# Altium integrated library TI Power Management Step-Down Regulator.IntLib: 559 symbols (part 33 of 35)
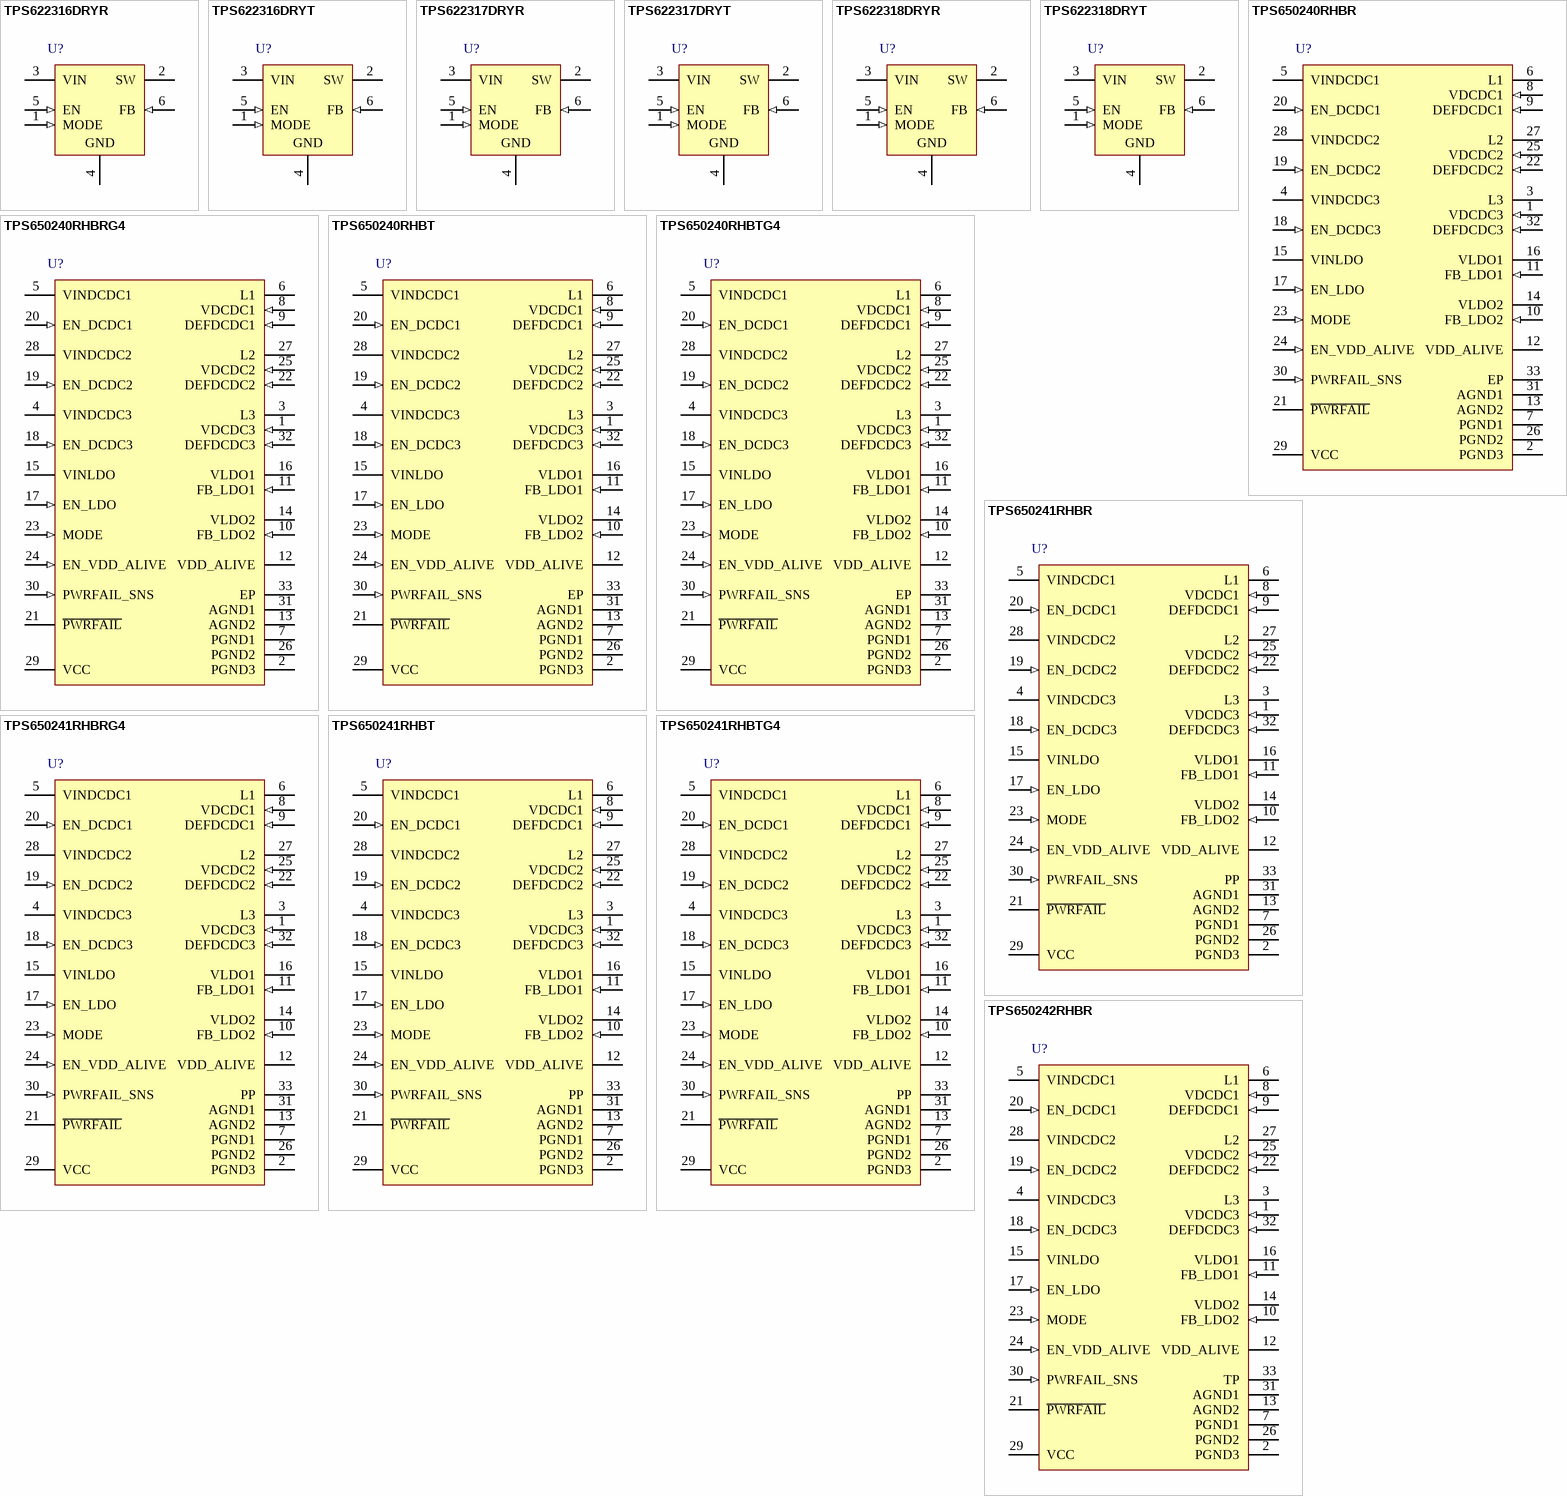
[diagram p51: symbols TPS622316DRYR to TPS650242RHBR]

## TPS650240RHBRG4
designator U?
Multi-Channel Power Management IC with 2.5 to 6 V Input, -40 to 85 degC, 32-Pin QFN (RHB), Green (RoHS & no Sb/Br); Manufacturer: Texas Instruments; PartNumber: TPS650240RHBRG4; Dynamic Voltage Scaling: TRUE; Rating: Catalog; Regulated Outputs(#): 6; SubFamily: PMIC Solutions with and without Battery Charge; Vin(Min)(V): 2.5; DatasheetVersion: SLVS774B; PackageVersion: revD, Jun-2011; PackageReference: RHB32-3450X3450TP; PackageDescription: 32-Pin Plastic Quad Flat No-Lead, 5 x 5 mm Body, 0.5 mm Pitch, 3.45 x 3.45 mm Exposed Pad; Supplier 1: Digi-Key; Supplier Part Number 1: TPS650240RHBRG4-ND; Supplier 2: Newark; Supplier Part Number 2: 52M6143; Supplier 3: Mouser; Supplier Part Number 3: 595-TPS650240RHBRG4; Eco-Plan: Green (RoHS & no Sb/Br); Topology: Multi-Channel; Vin(Max)(V): 6; Mounting Technology: Surface Mount; Code_JEDEC: MO-220; ComponentLink1Description: Datasheet; ComponentLink1URL: http://www.ti.com/general/docs/lit/getliterature.tsp?genericPartNumber=TPS650240&fileType=pdf; ComponentLink2Description: Package Specification; ComponentLink2URL: http://www.ti.com/litv/pdf/mpqf130c; ComponentLink3Description: URL Link1; ComponentLink3URL: Samples URL:http://www.ti.com/product/tps650240#samples
footprint RHB32-3450X3450TP (QFN, 32-Leads, Body 5x5mm, Pitch 0.5mm, Thermal Pad 3.45x3.45mm, TI Recommended)
pins: 1 VDCDC3 (in) "VDCDC3 feedback voltage sense input, connect directly to VDCDC3", 2 PGND3 (power) "Power ground for VDCDC3 converter", 3 L3 (power) "Switch pin of VDCDC3 converter. The VDCDC3 inductor is connected here.", 4 VINDCDC3 (power) "Input voltage for VDCDC3 step-down converter. This must be connected to the same voltage supply as VINDCDC1, VINDCDC2 and VCC.", 5 VINDCDC1 (power) "Input voltage for VDCDC1 step-down converter. This must be connected to the same voltage supply as VINDCDC2, VINDCDC3 and VCC.", 6 L1 (power) "Switch pin of VDCDC1 converter. The VDCDC1 inductor is connected here.", 7 PGND1 (power) "Power ground for VDCDC1 converter", 8 VDCDC1 (in) "VDCDC1 feedback voltage sense input, connect directly to VDCDC1", 9 DEFDCDC1 (in) "Input signal indicating default VDCDC1 voltage, 0 = 2.80V, 1 = 3.3V. This pin can also be connected to a resistor divider between VDCDC1 and GND. In this case the output voltage of the DCDC1 converter can be set in a range (See Datasheet)", 10 FB_LDO2 (in) "Feedback pin for LDO2", 11 FB_LDO1 (in) "Feedback pin for LDO1", 12 VDD_ALIVE (power) "Output voltage for Vdd_alive", 13 AGND2 (power) "Analog ground connection. All analog ground pins are connected internally on the chip.", 14 VLDO2 (power) "Output voltage of LDO2", 15 VINLDO (power) "Input voltage for LDO1 and LDO2", 16 VLDO1 (power) "Output voltage of LDO1", 17 EN_LDO (in) "Enable input for LDO1 and LDO2. Logic high enables the LDOs, logic low disables the LDOs", 18 EN_DCDC3 (in) "VDCDC3 enable pin. A logic high enables the regulator, a logic low disables the regulator.", 19 EN_DCDC2 (in) "VDCDC2 enable pin. A logic high enables the regulator, a logic low disables the regulator.", 20 EN_DCDC1 (in) "VDCDC1 enable pin. A logic high enables the regulator, a logic low disables the regulator.", 21 ~{PWRFAIL} (oc) "Open drain output. Active low when PWRFAIL comparator indicates low VBAT condition.", 22 DEFDCDC2 (in) "Input signal indicating default VDCDC2 voltage, 0=1.8V, 1=2.5V. This pin can also be connected to a resistor divider between VDCDC2 and GND. In this case the output voltage of the DCDC2 converter can be set in a range from 0.(See Datasheet)", 23 MODE (in) "Select between Power Safe Mode and forced PWM Mode for DCDC1, DCDC2 and DCDC3. In Power Safe Mode PFM is used at light loads, PWM for higher loads. If PIN is set to high level, forced PWM Mode is selected. If Pin has low (See Datasheet)", 24 EN_VDD_ALIVE (in) "Enable input for Vdd_alive LDO. Logic high enables the LDO, logic low disables the LDO", 25 VDCDC2 (in) "VDCDC2 feedback voltage sense input, connect directly to VDCDC2", 26 PGND2 (power) "Power ground for VDCDC2 converter", 27 L2 (power) "Switch pin of VDCDC2 converter. The VDCDC2 inductor is connected here.", 28 VINDCDC2 (power) "Input voltage for VDCDC2 step-down converter. This must be connected to the same voltage supply as VINDCDC1, VINDCDC3 and VCC.", 29 VCC (power) "Power supply for digital and analog circuitry of DCDC1, DCDC2 and DCDC3 DC-DC converters. This must be connected to the same voltage supply as VINDCDC3, VINDCDC1 and VINDCDC2.", 30 PWRFAIL_SNS (in) "Input for the comparator driving the /PWRFAIL output", 31 AGND1 (power) "Analog ground connection. All analog ground pins are connected internally on the chip.", 32 DEFDCDC3 (in) "Input signal indicating VDCDC3 voltage. TPS650240: 0 = 1.0V, 1 = 1.3V. TPS650241: 0 = 0.9V, 1 = 1.375V. TPS650242: 0 = 1.0V, 1 = 1.5V. TPS650243: 0 = 1.0V, 1 = 1.2V. TPS650244: 0 = 1.55V, 1 = 1.6V. TPS650245: 0 = 0.9V, 1 = 1.(See Datasheet)", 33 EP (power) "Connect the power pad to analog ground."

## TPS650240RHBT
designator U?
Multi-Channel Power Management IC with 2.5 to 6 V Input, -40 to 85 degC, 32-Pin QFN (RHB), Green (RoHS & no Sb/Br); Manufacturer: Texas Instruments; PartNumber: TPS650240RHBT; Dynamic Voltage Scaling: TRUE; Rating: Catalog; Regulated Outputs(#): 6; SubFamily: PMIC Solutions with and without Battery Charge; Vin(Min)(V): 2.5; DatasheetVersion: SLVS774B; PackageVersion: revD, Jun-2011; PackageReference: RHB32-3450X3450TP; PackageDescription: 32-Pin Plastic Quad Flat No-Lead, 5 x 5 mm Body, 0.5 mm Pitch, 3.45 x 3.45 mm Exposed Pad; Supplier 1: Digi-Key; Supplier Part Number 1: 296-22475-2-ND; Supplier 2: Digi-Key; Supplier Part Number 2: 296-22475-1-ND; Supplier 3: Digi-Key; Supplier Part Number 3: 296-22475-6-ND; Supplier 4: Newark; Supplier Part Number 4: 50M9139; Supplier 5: Mouser; Supplier Part Number 5: 595-TPS650240RHBT; Eco-Plan: Green (RoHS & no Sb/Br); Topology: Multi-Channel; Vin(Max)(V): 6; Mounting Technology: Surface Mount; Code_JEDEC: MO-220; ComponentLink1Description: Datasheet; ComponentLink1URL: http://www.ti.com/general/docs/lit/getliterature.tsp?genericPartNumber=TPS650240&fileType=pdf; ComponentLink2Description: Package Specification; ComponentLink2URL: http://www.ti.com/litv/pdf/mpqf130c; ComponentLink3Description: URL Link1; ComponentLink3URL: Samples URL:http://www.ti.com/product/tps650240#samples
footprint RHB32-3450X3450TP (QFN, 32-Leads, Body 5x5mm, Pitch 0.5mm, Thermal Pad 3.45x3.45mm, TI Recommended)
pins: 1 VDCDC3 (in) "VDCDC3 feedback voltage sense input, connect directly to VDCDC3", 2 PGND3 (power) "Power ground for VDCDC3 converter", 3 L3 (power) "Switch pin of VDCDC3 converter. The VDCDC3 inductor is connected here.", 4 VINDCDC3 (power) "Input voltage for VDCDC3 step-down converter. This must be connected to the same voltage supply as VINDCDC1, VINDCDC2 and VCC.", 5 VINDCDC1 (power) "Input voltage for VDCDC1 step-down converter. This must be connected to the same voltage supply as VINDCDC2, VINDCDC3 and VCC.", 6 L1 (power) "Switch pin of VDCDC1 converter. The VDCDC1 inductor is connected here.", 7 PGND1 (power) "Power ground for VDCDC1 converter", 8 VDCDC1 (in) "VDCDC1 feedback voltage sense input, connect directly to VDCDC1", 9 DEFDCDC1 (in) "Input signal indicating default VDCDC1 voltage, 0 = 2.80V, 1 = 3.3V. This pin can also be connected to a resistor divider between VDCDC1 and GND. In this case the output voltage of the DCDC1 converter can be set in a range (See Datasheet)", 10 FB_LDO2 (in) "Feedback pin for LDO2", 11 FB_LDO1 (in) "Feedback pin for LDO1", 12 VDD_ALIVE (power) "Output voltage for Vdd_alive", 13 AGND2 (power) "Analog ground connection. All analog ground pins are connected internally on the chip.", 14 VLDO2 (power) "Output voltage of LDO2", 15 VINLDO (power) "Input voltage for LDO1 and LDO2", 16 VLDO1 (power) "Output voltage of LDO1", 17 EN_LDO (in) "Enable input for LDO1 and LDO2. Logic high enables the LDOs, logic low disables the LDOs", 18 EN_DCDC3 (in) "VDCDC3 enable pin. A logic high enables the regulator, a logic low disables the regulator.", 19 EN_DCDC2 (in) "VDCDC2 enable pin. A logic high enables the regulator, a logic low disables the regulator.", 20 EN_DCDC1 (in) "VDCDC1 enable pin. A logic high enables the regulator, a logic low disables the regulator.", 21 ~{PWRFAIL} (oc) "Open drain output. Active low when PWRFAIL comparator indicates low VBAT condition.", 22 DEFDCDC2 (in) "Input signal indicating default VDCDC2 voltage, 0=1.8V, 1=2.5V. This pin can also be connected to a resistor divider between VDCDC2 and GND. In this case the output voltage of the DCDC2 converter can be set in a range from 0.(See Datasheet)", 23 MODE (in) "Select between Power Safe Mode and forced PWM Mode for DCDC1, DCDC2 and DCDC3. In Power Safe Mode PFM is used at light loads, PWM for higher loads. If PIN is set to high level, forced PWM Mode is selected. If Pin has low (See Datasheet)", 24 EN_VDD_ALIVE (in) "Enable input for Vdd_alive LDO. Logic high enables the LDO, logic low disables the LDO", 25 VDCDC2 (in) "VDCDC2 feedback voltage sense input, connect directly to VDCDC2", 26 PGND2 (power) "Power ground for VDCDC2 converter", 27 L2 (power) "Switch pin of VDCDC2 converter. The VDCDC2 inductor is connected here.", 28 VINDCDC2 (power) "Input voltage for VDCDC2 step-down converter. This must be connected to the same voltage supply as VINDCDC1, VINDCDC3 and VCC.", 29 VCC (power) "Power supply for digital and analog circuitry of DCDC1, DCDC2 and DCDC3 DC-DC converters. This must be connected to the same voltage supply as VINDCDC3, VINDCDC1 and VINDCDC2.", 30 PWRFAIL_SNS (in) "Input for the comparator driving the /PWRFAIL output", 31 AGND1 (power) "Analog ground connection. All analog ground pins are connected internally on the chip.", 32 DEFDCDC3 (in) "Input signal indicating VDCDC3 voltage. TPS650240: 0 = 1.0V, 1 = 1.3V. TPS650241: 0 = 0.9V, 1 = 1.375V. TPS650242: 0 = 1.0V, 1 = 1.5V. TPS650243: 0 = 1.0V, 1 = 1.2V. TPS650244: 0 = 1.55V, 1 = 1.6V. TPS650245: 0 = 0.9V, 1 = 1.(See Datasheet)", 33 EP (power) "Connect the power pad to analog ground."

## TPS650240RHBTG4
designator U?
Multi-Channel Power Management IC with 2.5 to 6 V Input, -40 to 85 degC, 32-Pin QFN (RHB), Green (RoHS & no Sb/Br); Manufacturer: Texas Instruments; PartNumber: TPS650240RHBTG4; Dynamic Voltage Scaling: TRUE; Rating: Catalog; Regulated Outputs(#): 6; SubFamily: PMIC Solutions with and without Battery Charge; Vin(Min)(V): 2.5; DatasheetVersion: SLVS774B; PackageVersion: revD, Jun-2011; PackageReference: RHB32-3450X3450TP; PackageDescription: 32-Pin Plastic Quad Flat No-Lead, 5 x 5 mm Body, 0.5 mm Pitch, 3.45 x 3.45 mm Exposed Pad; Supplier 1: Digi-Key; Supplier Part Number 1: TPS650240RHBTG4-ND; Supplier 2: Newark; Supplier Part Number 2: 52M6144; Supplier 3: Mouser; Supplier Part Number 3: 595-TPS650240RHBTG4; Eco-Plan: Green (RoHS & no Sb/Br); Topology: Multi-Channel; Vin(Max)(V): 6; Mounting Technology: Surface Mount; Code_JEDEC: MO-220; ComponentLink1Description: Datasheet; ComponentLink1URL: http://www.ti.com/general/docs/lit/getliterature.tsp?genericPartNumber=TPS650240&fileType=pdf; ComponentLink2Description: Package Specification; ComponentLink2URL: http://www.ti.com/litv/pdf/mpqf130c; ComponentLink3Description: URL Link1; ComponentLink3URL: Samples URL:http://www.ti.com/product/tps54611#samples
footprint RHB32-3450X3450TP (QFN, 32-Leads, Body 5x5mm, Pitch 0.5mm, Thermal Pad 3.45x3.45mm, TI Recommended)
pins: 1 VDCDC3 (in) "VDCDC3 feedback voltage sense input, connect directly to VDCDC3", 2 PGND3 (power) "Power ground for VDCDC3 converter", 3 L3 (power) "Switch pin of VDCDC3 converter. The VDCDC3 inductor is connected here.", 4 VINDCDC3 (power) "Input voltage for VDCDC3 step-down converter. This must be connected to the same voltage supply as VINDCDC1, VINDCDC2 and VCC.", 5 VINDCDC1 (power) "Input voltage for VDCDC1 step-down converter. This must be connected to the same voltage supply as VINDCDC2, VINDCDC3 and VCC.", 6 L1 (power) "Switch pin of VDCDC1 converter. The VDCDC1 inductor is connected here.", 7 PGND1 (power) "Power ground for VDCDC1 converter", 8 VDCDC1 (in) "VDCDC1 feedback voltage sense input, connect directly to VDCDC1", 9 DEFDCDC1 (in) "Input signal indicating default VDCDC1 voltage, 0 = 2.80V, 1 = 3.3V. This pin can also be connected to a resistor divider between VDCDC1 and GND. In this case the output voltage of the DCDC1 converter can be set in a range (See Datasheet)", 10 FB_LDO2 (in) "Feedback pin for LDO2", 11 FB_LDO1 (in) "Feedback pin for LDO1", 12 VDD_ALIVE (power) "Output voltage for Vdd_alive", 13 AGND2 (power) "Analog ground connection. All analog ground pins are connected internally on the chip.", 14 VLDO2 (power) "Output voltage of LDO2", 15 VINLDO (power) "Input voltage for LDO1 and LDO2", 16 VLDO1 (power) "Output voltage of LDO1", 17 EN_LDO (in) "Enable input for LDO1 and LDO2. Logic high enables the LDOs, logic low disables the LDOs", 18 EN_DCDC3 (in) "VDCDC3 enable pin. A logic high enables the regulator, a logic low disables the regulator.", 19 EN_DCDC2 (in) "VDCDC2 enable pin. A logic high enables the regulator, a logic low disables the regulator.", 20 EN_DCDC1 (in) "VDCDC1 enable pin. A logic high enables the regulator, a logic low disables the regulator.", 21 ~{PWRFAIL} (oc) "Open drain output. Active low when PWRFAIL comparator indicates low VBAT condition.", 22 DEFDCDC2 (in) "Input signal indicating default VDCDC2 voltage, 0=1.8V, 1=2.5V. This pin can also be connected to a resistor divider between VDCDC2 and GND. In this case the output voltage of the DCDC2 converter can be set in a range from 0.(See Datasheet)", 23 MODE (in) "Select between Power Safe Mode and forced PWM Mode for DCDC1, DCDC2 and DCDC3. In Power Safe Mode PFM is used at light loads, PWM for higher loads. If PIN is set to high level, forced PWM Mode is selected. If Pin has low (See Datasheet)", 24 EN_VDD_ALIVE (in) "Enable input for Vdd_alive LDO. Logic high enables the LDO, logic low disables the LDO", 25 VDCDC2 (in) "VDCDC2 feedback voltage sense input, connect directly to VDCDC2", 26 PGND2 (power) "Power ground for VDCDC2 converter", 27 L2 (power) "Switch pin of VDCDC2 converter. The VDCDC2 inductor is connected here.", 28 VINDCDC2 (power) "Input voltage for VDCDC2 step-down converter. This must be connected to the same voltage supply as VINDCDC1, VINDCDC3 and VCC.", 29 VCC (power) "Power supply for digital and analog circuitry of DCDC1, DCDC2 and DCDC3 DC-DC converters. This must be connected to the same voltage supply as VINDCDC3, VINDCDC1 and VINDCDC2.", 30 PWRFAIL_SNS (in) "Input for the comparator driving the /PWRFAIL output", 31 AGND1 (power) "Analog ground connection. All analog ground pins are connected internally on the chip.", 32 DEFDCDC3 (in) "Input signal indicating VDCDC3 voltage. TPS650240: 0 = 1.0V, 1 = 1.3V. TPS650241: 0 = 0.9V, 1 = 1.375V. TPS650242: 0 = 1.0V, 1 = 1.5V. TPS650243: 0 = 1.0V, 1 = 1.2V. TPS650244: 0 = 1.55V, 1 = 1.6V. TPS650245: 0 = 0.9V, 1 = 1.(See Datasheet)", 33 EP (power) "Connect the power pad to analog ground."

## TPS650241RHBR
designator U?
Multi-Channel Power Management IC with 2.5 to 6 V Input, -40 to 85 degC, 32-Pin QFN (RHB), Green (RoHS & no Sb/Br); Manufacturer: Texas Instruments; PartNumber: TPS650241RHBR; Dynamic Voltage Scaling: TRUE; Rating: Catalog; Regulated Outputs(#): 6; SubFamily: Step-Down Regulator; Vin(Min)(V): 2.5; DatasheetVersion: SLVS774B; PackageVersion: revD, Jun-2011; PackageReference: RHB32-3450X3450TP; PackageDescription: 32-Pin Plastic Quad Flat No-Lead, 5 x 5 mm Body, 0.5 mm Pitch, 3.45 x 3.45 mm Exposed Pad; Supplier 1: Digi-Key; Supplier Part Number 1: TPS650241RHBR-ND; Supplier 2: Newark; Supplier Part Number 2: 50M9140; Supplier 3: Mouser; Supplier Part Number 3: 595-TPS650241RHBR; Eco-Plan: Green (RoHS & no Sb/Br); Topology: Multi-Channel; Vin(Max)(V): 6; Mounting Technology: Surface Mount; Code_JEDEC: MO-220; ComponentLink1Description: Datasheet; ComponentLink1URL: http://www.ti.com/general/docs/lit/getliterature.tsp?genericPartNumber=TPS650241&fileType=pdf; ComponentLink2Description: Package Specification; ComponentLink2URL: http://www.ti.com/litv/pdf/mpqf130c; ComponentLink3Description: URL Link1; ComponentLink3URL: Samples URL:http://www.ti.com/product/tps650241#samples
footprint RHB32-3450X3450TP (QFN, 32-Leads, Body 5x5mm, Pitch 0.5mm, Thermal Pad 3.45x3.45mm, TI Recommended)
pins: 1 VDCDC3 (in) "VDCDC3 feedback voltage sense input, connect directly to VDCDC3", 2 PGND3 (power) "Power ground for VDCDC3 converter", 3 L3 (power) "Switch pin of VDCDC3 converter. The VDCDC3 inductor is connected here.", 4 VINDCDC3 (power) "Input voltage for VDCDC3 step-down converter. This must be connected to the same voltage supply as VINDCDC1, VINDCDC2 and VCC.", 5 VINDCDC1 (power) "Input voltage for VDCDC1 step-down converter. This must be connected to the same voltage supply as VINDCDC2, VINDCDC3 and VCC.", 6 L1 (power) "Switch pin of VDCDC1 converter. The VDCDC1 inductor is connected here.", 7 PGND1 (power) "Power ground for VDCDC1 converter", 8 VDCDC1 (in) "VDCDC1 feedback voltage sense input, connect directly to VDCDC1", 9 DEFDCDC1 (in) "Input signal indicating default VDCDC1 voltage, 0 = 2.80V, 1 = 3.3V This pin can also be connected to a resistor divider between VDCDC1 and GND. In this case the output voltage of the DCDC1 converter can be set in a range (See Datasheet)", 10 FB_LDO2 (in) "Feedback pin for LDO2", 11 FB_LDO1 (in) "Feedback pin for LDO1", 12 VDD_ALIVE (power) "Output voltage for Vdd_alive", 13 AGND2 (power) "Analog ground connection. All analog ground pins are connected internally on the chip.", 14 VLDO2 (power) "Output voltage of LDO2", 15 VINLDO (power) "Input voltage for LDO1 and LDO2", 16 VLDO1 (power) "Output voltage of LDO1", 17 EN_LDO (in) "Enable input for LDO1 and LDO2. Logic high enables the LDOs, logic low disables the LDOs", 18 EN_DCDC3 (in) "VDCDC3 enable pin. A logic high enables the regulator, a logic low disables the regulator.", 19 EN_DCDC2 (in) "VDCDC2 enable pin. A logic high enables the regulator, a logic low disables the regulator.", 20 EN_DCDC1 (in) "VDCDC1 enable pin. A logic high enables the regulator, a logic low disables the regulator.", 21 ~{PWRFAIL} (oc) "Open drain output. Active low when PWRFAIL comparator indicates low VBAT condition.", 22 DEFDCDC2 (in) "Input signal indicating default VDCDC2 voltage, 0=1.8V, 1=2.5V This pin can also be connected to a resistor divider between VDCDC2 and GND. In this case the output voltage of the DCDC2 converter can be set in a range from 0.(See Datasheet)", 23 MODE (in) "Select between Power Safe Mode and forced PWM Mode for DCDC1, DCDC2 and DCDC3. In Power Safe Mode PFM is used at light loads, PWM for higher loads. If PIN is set to high level, forced PWM Mode is selected. If Pin has low (See Datasheet)", 24 EN_VDD_ALIVE (in) "Enable input for Vdd_alive LDO. Logic high enables the LDO, logic low disables the LDO", 25 VDCDC2 (in) "VDCDC2 feedback voltage sense input, connect directly to VDCDC2", 26 PGND2 (power) "Power ground for VDCDC2 converter", 27 L2 (power) "Switch pin of VDCDC2 converter. The VDCDC2 inductor is connected here.", 28 VINDCDC2 (power) "Input voltage for VDCDC2 step-down converter. This must be connected to the same voltage supply as VINDCDC1, VINDCDC3 and VCC.", 29 VCC (power) "Power supply for digital and analog circuitry of DCDC1, DCDC2 and DCDC3 DC-DC converters. This must be connected to the same voltage supply as VINDCDC3, VINDCDC1 and VINDCDC2.", 30 PWRFAIL_SNS (in) "Input for the comparator driving the /PWRFAIL output", 31 AGND1 (power) "Analog ground connection. All analog ground pins are connected internally on the chip.", 32 DEFDCDC3 (in) "Input signal indicating VDCDC3 voltage. TPS650240: 0 = 1.0V, 1 = 1.3V TPS650241: 0 = 0.9V, 1 = 1.375V TPS650242: 0 = 1.0V, 1 = 1.5V TPS650243: 0 = 1.0V, 1 = 1.2V TPS650244: 0 = 1.55V, 1 = 1.6V TPS650245: 0 = 0.9V, 1 = 1.1V", 33 PP (power) "Connect the power pad to analog ground."

## TPS650241RHBRG4
designator U?
Multi-Channel Power Management IC with 2.5 to 6 V Input, -40 to 85 degC, 32-Pin QFN (RHB), Green (RoHS & no Sb/Br); Manufacturer: Texas Instruments; PartNumber: TPS650241RHBRG4; Dynamic Voltage Scaling: TRUE; Rating: Catalog; Regulated Outputs(#): 6; SubFamily: Step-Down Regulator; Vin(Min)(V): 2.5; DatasheetVersion: SLVS774B; PackageVersion: revD, Jun-2011; PackageReference: RHB32-3450X3450TP; PackageDescription: 32-Pin Plastic Quad Flat No-Lead, 5 x 5 mm Body, 0.5 mm Pitch, 3.45 x 3.45 mm Exposed Pad; Supplier 1: Digi-Key; Supplier Part Number 1: TPS650241RHBRG4-ND; Supplier 2: Newark; Supplier Part Number 2: 52M6145; Supplier 3: Mouser; Supplier Part Number 3: 595-TPS650241RHBRG4; Eco-Plan: Green (RoHS & no Sb/Br); Topology: Multi-Channel; Vin(Max)(V): 6; Mounting Technology: Surface Mount; Code_JEDEC: MO-220; ComponentLink1Description: Datasheet; ComponentLink1URL: http://www.ti.com/general/docs/lit/getliterature.tsp?genericPartNumber=TPS650241&fileType=pdf; ComponentLink2Description: Package Specification; ComponentLink2URL: http://www.ti.com/litv/pdf/mpqf130c; ComponentLink3Description: URL Link1; ComponentLink3URL: Samples URL:http://www.ti.com/product/tps650241#samples
footprint RHB32-3450X3450TP (QFN, 32-Leads, Body 5x5mm, Pitch 0.5mm, Thermal Pad 3.45x3.45mm, TI Recommended)
pins: 1 VDCDC3 (in) "VDCDC3 feedback voltage sense input, connect directly to VDCDC3", 2 PGND3 (power) "Power ground for VDCDC3 converter", 3 L3 (power) "Switch pin of VDCDC3 converter. The VDCDC3 inductor is connected here.", 4 VINDCDC3 (power) "Input voltage for VDCDC3 step-down converter. This must be connected to the same voltage supply as VINDCDC1, VINDCDC2 and VCC.", 5 VINDCDC1 (power) "Input voltage for VDCDC1 step-down converter. This must be connected to the same voltage supply as VINDCDC2, VINDCDC3 and VCC.", 6 L1 (power) "Switch pin of VDCDC1 converter. The VDCDC1 inductor is connected here.", 7 PGND1 (power) "Power ground for VDCDC1 converter", 8 VDCDC1 (in) "VDCDC1 feedback voltage sense input, connect directly to VDCDC1", 9 DEFDCDC1 (in) "Input signal indicating default VDCDC1 voltage, 0 = 2.80V, 1 = 3.3V This pin can also be connected to a resistor divider between VDCDC1 and GND. In this case the output voltage of the DCDC1 converter can be set in a range (See Datasheet)", 10 FB_LDO2 (in) "Feedback pin for LDO2", 11 FB_LDO1 (in) "Feedback pin for LDO1", 12 VDD_ALIVE (power) "Output voltage for Vdd_alive", 13 AGND2 (power) "Analog ground connection. All analog ground pins are connected internally on the chip.", 14 VLDO2 (power) "Output voltage of LDO2", 15 VINLDO (power) "Input voltage for LDO1 and LDO2", 16 VLDO1 (power) "Output voltage of LDO1", 17 EN_LDO (in) "Enable input for LDO1 and LDO2. Logic high enables the LDOs, logic low disables the LDOs", 18 EN_DCDC3 (in) "VDCDC3 enable pin. A logic high enables the regulator, a logic low disables the regulator.", 19 EN_DCDC2 (in) "VDCDC2 enable pin. A logic high enables the regulator, a logic low disables the regulator.", 20 EN_DCDC1 (in) "VDCDC1 enable pin. A logic high enables the regulator, a logic low disables the regulator.", 21 ~{PWRFAIL} (oc) "Open drain output. Active low when PWRFAIL comparator indicates low VBAT condition.", 22 DEFDCDC2 (in) "Input signal indicating default VDCDC2 voltage, 0=1.8V, 1=2.5V This pin can also be connected to a resistor divider between VDCDC2 and GND. In this case the output voltage of the DCDC2 converter can be set in a range from 0.(See Datasheet)", 23 MODE (in) "Select between Power Safe Mode and forced PWM Mode for DCDC1, DCDC2 and DCDC3. In Power Safe Mode PFM is used at light loads, PWM for higher loads. If PIN is set to high level, forced PWM Mode is selected. If Pin has low (See Datasheet)", 24 EN_VDD_ALIVE (in) "Enable input for Vdd_alive LDO. Logic high enables the LDO, logic low disables the LDO", 25 VDCDC2 (in) "VDCDC2 feedback voltage sense input, connect directly to VDCDC2", 26 PGND2 (power) "Power ground for VDCDC2 converter", 27 L2 (power) "Switch pin of VDCDC2 converter. The VDCDC2 inductor is connected here.", 28 VINDCDC2 (power) "Input voltage for VDCDC2 step-down converter. This must be connected to the same voltage supply as VINDCDC1, VINDCDC3 and VCC.", 29 VCC (power) "Power supply for digital and analog circuitry of DCDC1, DCDC2 and DCDC3 DC-DC converters. This must be connected to the same voltage supply as VINDCDC3, VINDCDC1 and VINDCDC2.", 30 PWRFAIL_SNS (in) "Input for the comparator driving the /PWRFAIL output", 31 AGND1 (power) "Analog ground connection. All analog ground pins are connected internally on the chip.", 32 DEFDCDC3 (in) "Input signal indicating VDCDC3 voltage. TPS650240: 0 = 1.0V, 1 = 1.3V TPS650241: 0 = 0.9V, 1 = 1.375V TPS650242: 0 = 1.0V, 1 = 1.5V TPS650243: 0 = 1.0V, 1 = 1.2V TPS650244: 0 = 1.55V, 1 = 1.6V TPS650245: 0 = 0.9V, 1 = 1.1V", 33 PP (power) "Connect the power pad to analog ground."

## TPS650241RHBT
designator U?
Multi-Channel Power Management IC with 2.5 to 6 V Input, -40 to 85 degC, 32-Pin QFN (RHB), Green (RoHS & no Sb/Br); Manufacturer: Texas Instruments; PartNumber: TPS650241RHBT; Dynamic Voltage Scaling: TRUE; Rating: Catalog; Regulated Outputs(#): 6; SubFamily: Step-Down Regulator; Vin(Min)(V): 2.5; DatasheetVersion: SLVS774B; PackageVersion: revD, Jun-2011; PackageReference: RHB32-3450X3450TP; PackageDescription: 32-Pin Plastic Quad Flat No-Lead, 5 x 5 mm Body, 0.5 mm Pitch, 3.45 x 3.45 mm Exposed Pad; Supplier 1: Digi-Key; Supplier Part Number 1: 296-22476-2-ND; Supplier 2: Digi-Key; Supplier Part Number 2: 296-22476-1-ND; Supplier 3: Digi-Key; Supplier Part Number 3: 296-22476-6-ND; Supplier 4: Farnell; Supplier Part Number 4: 1565869; Supplier 5: Newark; Supplier Part Number 5: 50M9141; Supplier 6: Mouser; Supplier Part Number 6: 595-TPS650241RHBT; Eco-Plan: Green (RoHS & no Sb/Br); Topology: Multi-Channel; Vin(Max)(V): 6; Mounting Technology: Surface Mount; Code_JEDEC: MO-220; ComponentLink1Description: Datasheet; ComponentLink1URL: http://www.ti.com/general/docs/lit/getliterature.tsp?genericPartNumber=TPS650241&fileType=pdf; ComponentLink2Description: Package Specification; ComponentLink2URL: http://www.ti.com/litv/pdf/mpqf130c; ComponentLink3Description: URL Link1; ComponentLink3URL: Samples URL:http://www.ti.com/product/tps650241#samples
footprint RHB32-3450X3450TP (QFN, 32-Leads, Body 5x5mm, Pitch 0.5mm, Thermal Pad 3.45x3.45mm, TI Recommended)
pins: 1 VDCDC3 (in) "VDCDC3 feedback voltage sense input, connect directly to VDCDC3", 2 PGND3 (power) "Power ground for VDCDC3 converter", 3 L3 (power) "Switch pin of VDCDC3 converter. The VDCDC3 inductor is connected here.", 4 VINDCDC3 (power) "Input voltage for VDCDC3 step-down converter. This must be connected to the same voltage supply as VINDCDC1, VINDCDC2 and VCC.", 5 VINDCDC1 (power) "Input voltage for VDCDC1 step-down converter. This must be connected to the same voltage supply as VINDCDC2, VINDCDC3 and VCC.", 6 L1 (power) "Switch pin of VDCDC1 converter. The VDCDC1 inductor is connected here.", 7 PGND1 (power) "Power ground for VDCDC1 converter", 8 VDCDC1 (in) "VDCDC1 feedback voltage sense input, connect directly to VDCDC1", 9 DEFDCDC1 (in) "Input signal indicating default VDCDC1 voltage, 0 = 2.80V, 1 = 3.3V This pin can also be connected to a resistor divider between VDCDC1 and GND. In this case the output voltage of the DCDC1 converter can be set in a range (See Datasheet)", 10 FB_LDO2 (in) "Feedback pin for LDO2", 11 FB_LDO1 (in) "Feedback pin for LDO1", 12 VDD_ALIVE (power) "Output voltage for Vdd_alive", 13 AGND2 (power) "Analog ground connection. All analog ground pins are connected internally on the chip.", 14 VLDO2 (power) "Output voltage of LDO2", 15 VINLDO (power) "Input voltage for LDO1 and LDO2", 16 VLDO1 (power) "Output voltage of LDO1", 17 EN_LDO (in) "Enable input for LDO1 and LDO2. Logic high enables the LDOs, logic low disables the LDOs", 18 EN_DCDC3 (in) "VDCDC3 enable pin. A logic high enables the regulator, a logic low disables the regulator.", 19 EN_DCDC2 (in) "VDCDC2 enable pin. A logic high enables the regulator, a logic low disables the regulator.", 20 EN_DCDC1 (in) "VDCDC1 enable pin. A logic high enables the regulator, a logic low disables the regulator.", 21 ~{PWRFAIL} (oc) "Open drain output. Active low when PWRFAIL comparator indicates low VBAT condition.", 22 DEFDCDC2 (in) "Input signal indicating default VDCDC2 voltage, 0=1.8V, 1=2.5V This pin can also be connected to a resistor divider between VDCDC2 and GND. In this case the output voltage of the DCDC2 converter can be set in a range from 0.(See Datasheet)", 23 MODE (in) "Select between Power Safe Mode and forced PWM Mode for DCDC1, DCDC2 and DCDC3. In Power Safe Mode PFM is used at light loads, PWM for higher loads. If PIN is set to high level, forced PWM Mode is selected. If Pin has low (See Datasheet)", 24 EN_VDD_ALIVE (in) "Enable input for Vdd_alive LDO. Logic high enables the LDO, logic low disables the LDO", 25 VDCDC2 (in) "VDCDC2 feedback voltage sense input, connect directly to VDCDC2", 26 PGND2 (power) "Power ground for VDCDC2 converter", 27 L2 (power) "Switch pin of VDCDC2 converter. The VDCDC2 inductor is connected here.", 28 VINDCDC2 (power) "Input voltage for VDCDC2 step-down converter. This must be connected to the same voltage supply as VINDCDC1, VINDCDC3 and VCC.", 29 VCC (power) "Power supply for digital and analog circuitry of DCDC1, DCDC2 and DCDC3 DC-DC converters. This must be connected to the same voltage supply as VINDCDC3, VINDCDC1 and VINDCDC2.", 30 PWRFAIL_SNS (in) "Input for the comparator driving the /PWRFAIL output", 31 AGND1 (power) "Analog ground connection. All analog ground pins are connected internally on the chip.", 32 DEFDCDC3 (in) "Input signal indicating VDCDC3 voltage. TPS650240: 0 = 1.0V, 1 = 1.3V TPS650241: 0 = 0.9V, 1 = 1.375V TPS650242: 0 = 1.0V, 1 = 1.5V TPS650243: 0 = 1.0V, 1 = 1.2V TPS650244: 0 = 1.55V, 1 = 1.6V TPS650245: 0 = 0.9V, 1 = 1.1V", 33 PP (power) "Connect the power pad to analog ground."

## TPS650241RHBTG4
designator U?
Multi-Channel Power Management IC with 2.5 to 6 V Input, -40 to 85 degC, 32-Pin QFN (RHB), Green (RoHS & no Sb/Br); Manufacturer: Texas Instruments; PartNumber: TPS650241RHBTG4; Dynamic Voltage Scaling: TRUE; Rating: Catalog; Regulated Outputs(#): 6; SubFamily: Step-Down Regulator; Vin(Min)(V): 2.5; DatasheetVersion: SLVS774B; PackageVersion: revD, Jun-2011; PackageReference: RHB32-3450X3450TP; PackageDescription: 32-Pin Plastic Quad Flat No-Lead, 5 x 5 mm Body, 0.5 mm Pitch, 3.45 x 3.45 mm Exposed Pad; Supplier 1: Digi-Key; Supplier Part Number 1: TPS650241RHBTG4-ND; Supplier 2: Newark; Supplier Part Number 2: 52M6146; Supplier 3: Mouser; Supplier Part Number 3: 595-TPS650241RHBTG4; Eco-Plan: Green (RoHS & no Sb/Br); Topology: Multi-Channel; Vin(Max)(V): 6; Mounting Technology: Surface Mount; Code_JEDEC: MO-220; ComponentLink1Description: Datasheet; ComponentLink1URL: http://www.ti.com/general/docs/lit/getliterature.tsp?genericPartNumber=TPS650241&fileType=pdf; ComponentLink2Description: Package Specification; ComponentLink2URL: http://www.ti.com/litv/pdf/mpqf130c; ComponentLink3Description: URL Link1; ComponentLink3URL: Samples URL:http://www.ti.com/product/tps54611#samples
footprint RHB32-3450X3450TP (QFN, 32-Leads, Body 5x5mm, Pitch 0.5mm, Thermal Pad 3.45x3.45mm, TI Recommended)
pins: 1 VDCDC3 (in) "VDCDC3 feedback voltage sense input, connect directly to VDCDC3", 2 PGND3 (power) "Power ground for VDCDC3 converter", 3 L3 (power) "Switch pin of VDCDC3 converter. The VDCDC3 inductor is connected here.", 4 VINDCDC3 (power) "Input voltage for VDCDC3 step-down converter. This must be connected to the same voltage supply as VINDCDC1, VINDCDC2 and VCC.", 5 VINDCDC1 (power) "Input voltage for VDCDC1 step-down converter. This must be connected to the same voltage supply as VINDCDC2, VINDCDC3 and VCC.", 6 L1 (power) "Switch pin of VDCDC1 converter. The VDCDC1 inductor is connected here.", 7 PGND1 (power) "Power ground for VDCDC1 converter", 8 VDCDC1 (in) "VDCDC1 feedback voltage sense input, connect directly to VDCDC1", 9 DEFDCDC1 (in) "Input signal indicating default VDCDC1 voltage, 0 = 2.80V, 1 = 3.3V This pin can also be connected to a resistor divider between VDCDC1 and GND. In this case the output voltage of the DCDC1 converter can be set in a range (See Datasheet)", 10 FB_LDO2 (in) "Feedback pin for LDO2", 11 FB_LDO1 (in) "Feedback pin for LDO1", 12 VDD_ALIVE (power) "Output voltage for Vdd_alive", 13 AGND2 (power) "Analog ground connection. All analog ground pins are connected internally on the chip.", 14 VLDO2 (power) "Output voltage of LDO2", 15 VINLDO (power) "Input voltage for LDO1 and LDO2", 16 VLDO1 (power) "Output voltage of LDO1", 17 EN_LDO (in) "Enable input for LDO1 and LDO2. Logic high enables the LDOs, logic low disables the LDOs", 18 EN_DCDC3 (in) "VDCDC3 enable pin. A logic high enables the regulator, a logic low disables the regulator.", 19 EN_DCDC2 (in) "VDCDC2 enable pin. A logic high enables the regulator, a logic low disables the regulator.", 20 EN_DCDC1 (in) "VDCDC1 enable pin. A logic high enables the regulator, a logic low disables the regulator.", 21 ~{PWRFAIL} (oc) "Open drain output. Active low when PWRFAIL comparator indicates low VBAT condition.", 22 DEFDCDC2 (in) "Input signal indicating default VDCDC2 voltage, 0=1.8V, 1=2.5V This pin can also be connected to a resistor divider between VDCDC2 and GND. In this case the output voltage of the DCDC2 converter can be set in a range from 0.(See Datasheet)", 23 MODE (in) "Select between Power Safe Mode and forced PWM Mode for DCDC1, DCDC2 and DCDC3. In Power Safe Mode PFM is used at light loads, PWM for higher loads. If PIN is set to high level, forced PWM Mode is selected. If Pin has low (See Datasheet)", 24 EN_VDD_ALIVE (in) "Enable input for Vdd_alive LDO. Logic high enables the LDO, logic low disables the LDO", 25 VDCDC2 (in) "VDCDC2 feedback voltage sense input, connect directly to VDCDC2", 26 PGND2 (power) "Power ground for VDCDC2 converter", 27 L2 (power) "Switch pin of VDCDC2 converter. The VDCDC2 inductor is connected here.", 28 VINDCDC2 (power) "Input voltage for VDCDC2 step-down converter. This must be connected to the same voltage supply as VINDCDC1, VINDCDC3 and VCC.", 29 VCC (power) "Power supply for digital and analog circuitry of DCDC1, DCDC2 and DCDC3 DC-DC converters. This must be connected to the same voltage supply as VINDCDC3, VINDCDC1 and VINDCDC2.", 30 PWRFAIL_SNS (in) "Input for the comparator driving the /PWRFAIL output", 31 AGND1 (power) "Analog ground connection. All analog ground pins are connected internally on the chip.", 32 DEFDCDC3 (in) "Input signal indicating VDCDC3 voltage. TPS650240: 0 = 1.0V, 1 = 1.3V TPS650241: 0 = 0.9V, 1 = 1.375V TPS650242: 0 = 1.0V, 1 = 1.5V TPS650243: 0 = 1.0V, 1 = 1.2V TPS650244: 0 = 1.55V, 1 = 1.6V TPS650245: 0 = 0.9V, 1 = 1.1V", 33 PP (power) "Connect the power pad to analog ground."

## TPS650242RHBR
designator U?
Multi-Channel Power Management IC with 2.5 to 6 V Input, -40 to 85 degC, 32-Pin QFN (RHB), Green (RoHS & no Sb/Br); Manufacturer: Texas Instruments; PartNumber: TPS650242RHBR; Dynamic Voltage Scaling: TRUE; Rating: Catalog; Regulated Outputs(#): 6; SubFamily: Step-Down Regulator; Vin(Min)(V): 2.5; DatasheetVersion: SLVS774B; PackageVersion: revD, Jun-2011; PackageReference: RHB32-3450X3450TP; PackageDescription: 32-Pin Plastic Quad Flat No-Lead, 5 x 5 mm Body, 0.5 mm Pitch, 3.45 x 3.45 mm Exposed Pad; Supplier 1: Digi-Key; Supplier Part Number 1: TPS650242RHBR-ND; Supplier 2: Newark; Supplier Part Number 2: 50M9142; Supplier 3: Mouser; Supplier Part Number 3: 595-TPS650242RHBR; Eco-Plan: Green (RoHS & no Sb/Br); Topology: Multi-Channel; Vin(Max)(V): 6; Mounting Technology: Surface Mount; Code_JEDEC: MO-220; ComponentLink1Description: Datasheet; ComponentLink1URL: http://www.ti.com/general/docs/lit/getliterature.tsp?genericPartNumber=TPS650242&fileType=pdf; ComponentLink2Description: Package Specification; ComponentLink2URL: http://www.ti.com/litv/pdf/mpqf130c; ComponentLink3Description: URL Link1; ComponentLink3URL: Samples URL:http://www.ti.com/product/tps650242#samples
footprint RHB32-3450X3450TP (QFN, 32-Leads, Body 5x5mm, Pitch 0.5mm, Thermal Pad 3.45x3.45mm, TI Recommended)
pins: 1 VDCDC3 (in) "VDCDC3 feedback voltage sense input, connect directly to VDCDC3", 2 PGND3 (power) "Power ground for VDCDC3 converter", 3 L3 (power) "Switch pin of VDCDC3 converter. The VDCDC3 inductor is connected here.", 4 VINDCDC3 (power) "Input voltage for VDCDC3 step-down converter. This must be connected to the same voltage supply as VINDCDC1, VINDCDC2 and VCC.", 5 VINDCDC1 (power) "Input voltage for VDCDC1 step-down converter. This must be connected to the same voltage supply as VINDCDC2, VINDCDC3 and VCC.", 6 L1 (power) "Switch pin of VDCDC1 converter. The VDCDC1 inductor is connected here.", 7 PGND1 (power) "Power ground for VDCDC1 converter", 8 VDCDC1 (in) "VDCDC1 feedback voltage sense input, connect directly to VDCDC1", 9 DEFDCDC1 (in) "Input signal indicating default VDCDC1 voltage, 0 = 2.80V, 1 = 3.3V This pin can also be connected to a resistor divider between VDCDC1 and GND. In this case the output voltage of the DCDC1 converter can be set in a range (See Datasheet)", 10 FB_LDO2 (in) "Feedback pin for LDO2", 11 FB_LDO1 (in) "Feedback pin for LDO1", 12 VDD_ALIVE (power) "Output voltage for Vdd_alive", 13 AGND2 (power) "Analog ground connection. All analog ground pins are connected internally on the chip.", 14 VLDO2 (power) "Output voltage of LDO2", 15 VINLDO (power) "Input voltage for LDO1 and LDO2", 16 VLDO1 (power) "Output voltage of LDO1", 17 EN_LDO (in) "Enable input for LDO1 and LDO2. Logic high enables the LDOs, logic low disables the LDOs", 18 EN_DCDC3 (in) "VDCDC3 enable pin. A logic high enables the regulator, a logic low disables the regulator.", 19 EN_DCDC2 (in) "VDCDC2 enable pin. A logic high enables the regulator, a logic low disables the regulator.", 20 EN_DCDC1 (in) "VDCDC1 enable pin. A logic high enables the regulator, a logic low disables the regulator.", 21 ~{PWRFAIL} (oc) "Open drain output. Active low when PWRFAIL comparator indicates low VBAT condition.", 22 DEFDCDC2 (in) "Input signal indicating default VDCDC2 voltage, 0=1.8V, 1=2.5V This pin can also be connected to a resistor divider between VDCDC2 and GND. In this case the output voltage of the DCDC2 converter can be set in a range from 0.(See Datasheet)", 23 MODE (in) "Select between Power Safe Mode and forced PWM Mode for DCDC1, DCDC2 and DCDC3. In Power Safe Mode PFM is used at light loads, PWM for higher loads. If PIN is set to high level, forced PWM Mode is selected. If Pin has low (See Datasheet)", 24 EN_VDD_ALIVE (in) "Enable input for Vdd_alive LDO. Logic high enables the LDO, logic low disables the LDO", 25 VDCDC2 (in) "VDCDC2 feedback voltage sense input, connect directly to VDCDC2", 26 PGND2 (power) "Power ground for VDCDC2 converter", 27 L2 (power) "Switch pin of VDCDC2 converter. The VDCDC2 inductor is connected here.", 28 VINDCDC2 (power) "Input voltage for VDCDC2 step-down converter. This must be connected to the same voltage supply as VINDCDC1, VINDCDC3 and VCC.", 29 VCC (power) "Power supply for digital and analog circuitry of DCDC1, DCDC2 and DCDC3 DC-DC converters. This must be connected to the same voltage supply as VINDCDC3, VINDCDC1 and VINDCDC2.", 30 PWRFAIL_SNS (in) "Input for the comparator driving the /PWRFAIL output", 31 AGND1 (power) "Analog ground connection. All analog ground pins are connected internally on the chip.", 32 DEFDCDC3 (in) "Input signal indicating VDCDC3 voltage. TPS650240: 0 = 1.0V, 1 = 1.3V TPS650241: 0 = 0.9V, 1 = 1.375V TPS650242: 0 = 1.0V, 1 = 1.5V TPS650243: 0 = 1.0V, 1 = 1.2V TPS650244: 0 = 1.55V, 1 = 1.6V TPS650245: 0 = 0.9V, 1 = 1.1V", 33 TP (power) "Connect the power pad to analog ground."

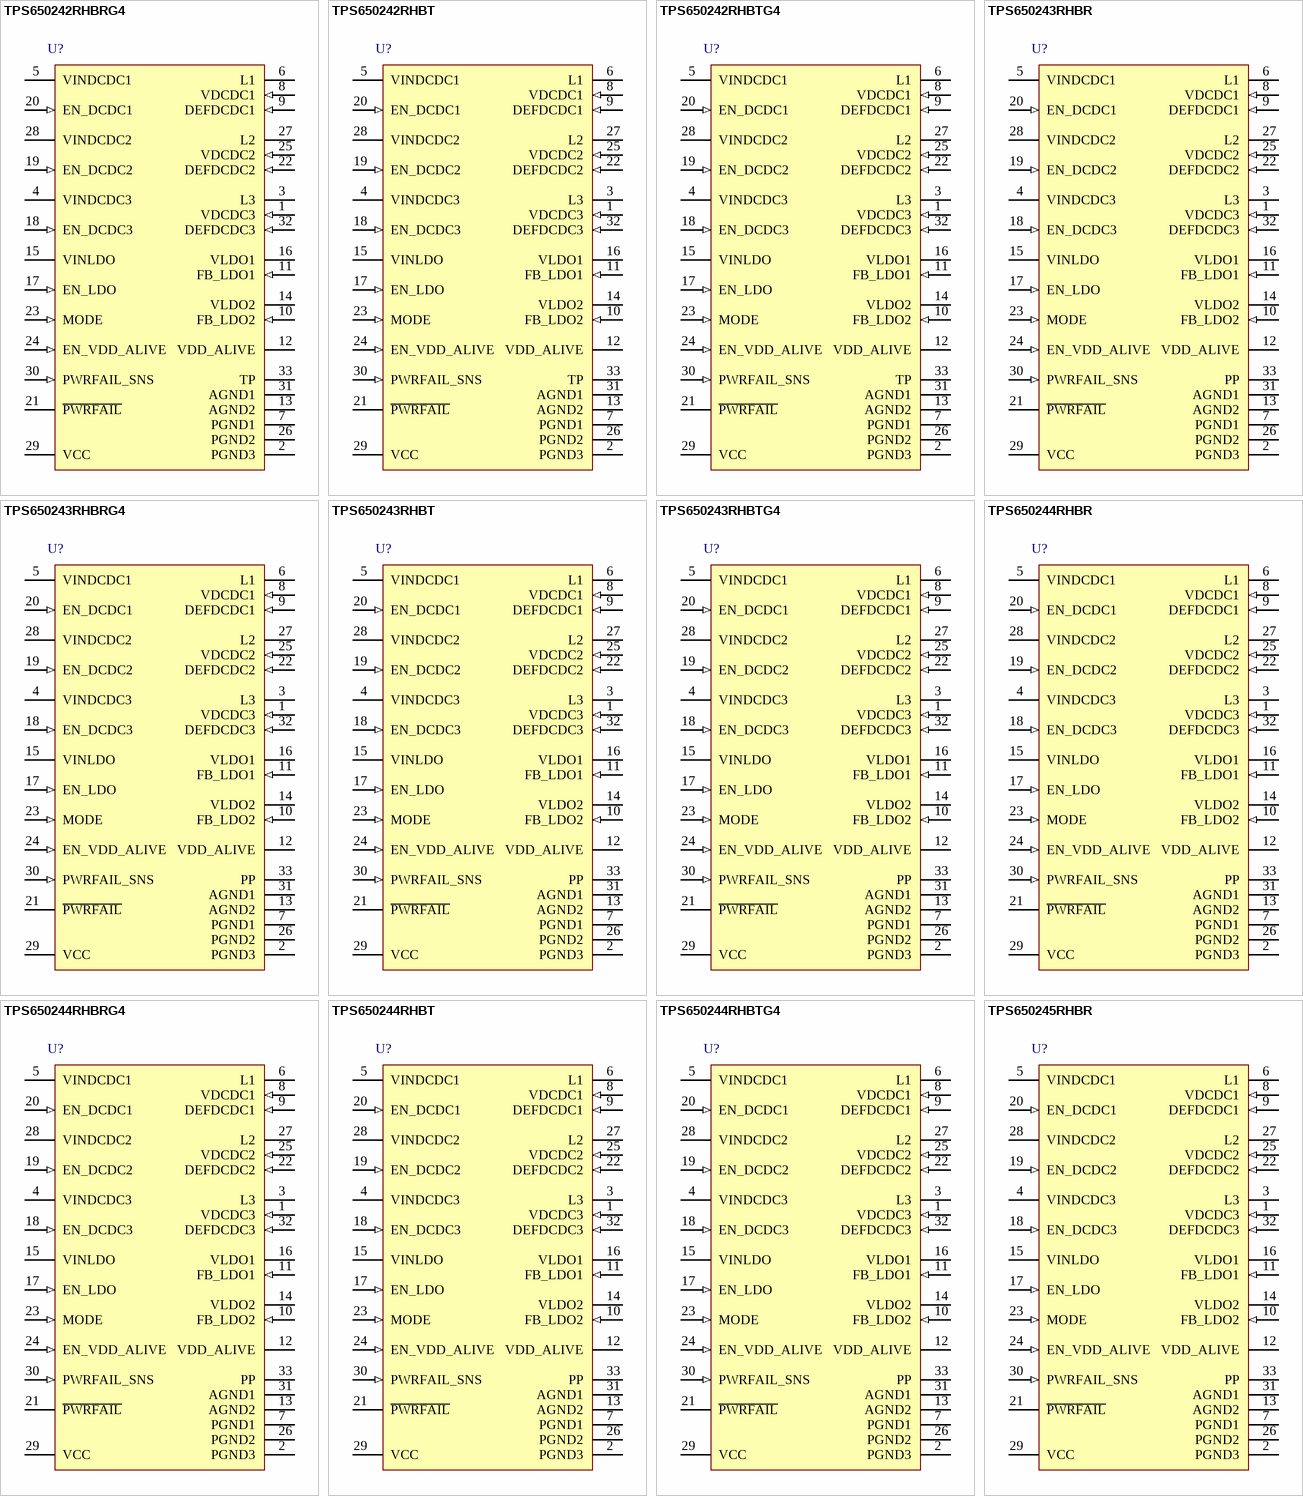
[diagram p18: symbols TPS650242RHBRG4 to TPS650245RHBR]

## TPS650242RHBRG4
designator U?
Multi-Channel Power Management IC with 2.5 to 6 V Input, -40 to 85 degC, 32-Pin QFN (RHB), Green (RoHS & no Sb/Br); Manufacturer: Texas Instruments; PartNumber: TPS650242RHBRG4; Dynamic Voltage Scaling: TRUE; Rating: Catalog; Regulated Outputs(#): 6; SubFamily: Step-Down Regulator; Vin(Min)(V): 2.5; DatasheetVersion: SLVS774B; PackageVersion: revD, Jun-2011; PackageReference: RHB32-3450X3450TP; PackageDescription: 32-Pin Plastic Quad Flat No-Lead, 5 x 5 mm Body, 0.5 mm Pitch, 3.45 x 3.45 mm Exposed Pad; Supplier 1: Digi-Key; Supplier Part Number 1: TPS650242RHBRG4-ND; Supplier 2: Newark; Supplier Part Number 2: 52M6147; Supplier 3: Mouser; Supplier Part Number 3: 595-TPS650242RHBRG4; Eco-Plan: Green (RoHS & no Sb/Br); Topology: Multi-Channel; Vin(Max)(V): 6; Mounting Technology: Surface Mount; Code_JEDEC: MO-220; ComponentLink1Description: Datasheet; ComponentLink1URL: http://www.ti.com/general/docs/lit/getliterature.tsp?genericPartNumber=TPS650242&fileType=pdf; ComponentLink2Description: Package Specification; ComponentLink2URL: http://www.ti.com/litv/pdf/mpqf130c; ComponentLink3Description: URL Link1; ComponentLink3URL: Samples URL:http://www.ti.com/product/tps650242#samples
footprint RHB32-3450X3450TP (QFN, 32-Leads, Body 5x5mm, Pitch 0.5mm, Thermal Pad 3.45x3.45mm, TI Recommended)
pins: 1 VDCDC3 (in) "VDCDC3 feedback voltage sense input, connect directly to VDCDC3", 2 PGND3 (power) "Power ground for VDCDC3 converter", 3 L3 (power) "Switch pin of VDCDC3 converter. The VDCDC3 inductor is connected here.", 4 VINDCDC3 (power) "Input voltage for VDCDC3 step-down converter. This must be connected to the same voltage supply as VINDCDC1, VINDCDC2 and VCC.", 5 VINDCDC1 (power) "Input voltage for VDCDC1 step-down converter. This must be connected to the same voltage supply as VINDCDC2, VINDCDC3 and VCC.", 6 L1 (power) "Switch pin of VDCDC1 converter. The VDCDC1 inductor is connected here.", 7 PGND1 (power) "Power ground for VDCDC1 converter", 8 VDCDC1 (in) "VDCDC1 feedback voltage sense input, connect directly to VDCDC1", 9 DEFDCDC1 (in) "Input signal indicating default VDCDC1 voltage, 0 = 2.80V, 1 = 3.3V This pin can also be connected to a resistor divider between VDCDC1 and GND. In this case the output voltage of the DCDC1 converter can be set in a range (See Datasheet)", 10 FB_LDO2 (in) "Feedback pin for LDO2", 11 FB_LDO1 (in) "Feedback pin for LDO1", 12 VDD_ALIVE (power) "Output voltage for Vdd_alive", 13 AGND2 (power) "Analog ground connection. All analog ground pins are connected internally on the chip.", 14 VLDO2 (power) "Output voltage of LDO2", 15 VINLDO (power) "Input voltage for LDO1 and LDO2", 16 VLDO1 (power) "Output voltage of LDO1", 17 EN_LDO (in) "Enable input for LDO1 and LDO2. Logic high enables the LDOs, logic low disables the LDOs", 18 EN_DCDC3 (in) "VDCDC3 enable pin. A logic high enables the regulator, a logic low disables the regulator.", 19 EN_DCDC2 (in) "VDCDC2 enable pin. A logic high enables the regulator, a logic low disables the regulator.", 20 EN_DCDC1 (in) "VDCDC1 enable pin. A logic high enables the regulator, a logic low disables the regulator.", 21 ~{PWRFAIL} (oc) "Open drain output. Active low when PWRFAIL comparator indicates low VBAT condition.", 22 DEFDCDC2 (in) "Input signal indicating default VDCDC2 voltage, 0=1.8V, 1=2.5V This pin can also be connected to a resistor divider between VDCDC2 and GND. In this case the output voltage of the DCDC2 converter can be set in a range from 0.(See Datasheet)", 23 MODE (in) "Select between Power Safe Mode and forced PWM Mode for DCDC1, DCDC2 and DCDC3. In Power Safe Mode PFM is used at light loads, PWM for higher loads. If PIN is set to high level, forced PWM Mode is selected. If Pin has low (See Datasheet)", 24 EN_VDD_ALIVE (in) "Enable input for Vdd_alive LDO. Logic high enables the LDO, logic low disables the LDO", 25 VDCDC2 (in) "VDCDC2 feedback voltage sense input, connect directly to VDCDC2", 26 PGND2 (power) "Power ground for VDCDC2 converter", 27 L2 (power) "Switch pin of VDCDC2 converter. The VDCDC2 inductor is connected here.", 28 VINDCDC2 (power) "Input voltage for VDCDC2 step-down converter. This must be connected to the same voltage supply as VINDCDC1, VINDCDC3 and VCC.", 29 VCC (power) "Power supply for digital and analog circuitry of DCDC1, DCDC2 and DCDC3 DC-DC converters. This must be connected to the same voltage supply as VINDCDC3, VINDCDC1 and VINDCDC2.", 30 PWRFAIL_SNS (in) "Input for the comparator driving the /PWRFAIL output", 31 AGND1 (power) "Analog ground connection. All analog ground pins are connected internally on the chip.", 32 DEFDCDC3 (in) "Input signal indicating VDCDC3 voltage. TPS650240: 0 = 1.0V, 1 = 1.3V TPS650241: 0 = 0.9V, 1 = 1.375V TPS650242: 0 = 1.0V, 1 = 1.5V TPS650243: 0 = 1.0V, 1 = 1.2V TPS650244: 0 = 1.55V, 1 = 1.6V TPS650245: 0 = 0.9V, 1 = 1.1V", 33 TP (power) "Connect the power pad to analog ground."